# Altium footprint library 399200302.PcbLib: 1 footprints
Each footprint in its own frame and in the unit in brackets; x right, y up, seen from the top. Pads: shape width x height; smd on the part's side, far side on the other; paste and mask are expansions set on the pad; w line width, h text height; cw(c..) or ccw(c..) is an arc to the next point about the centre after c.
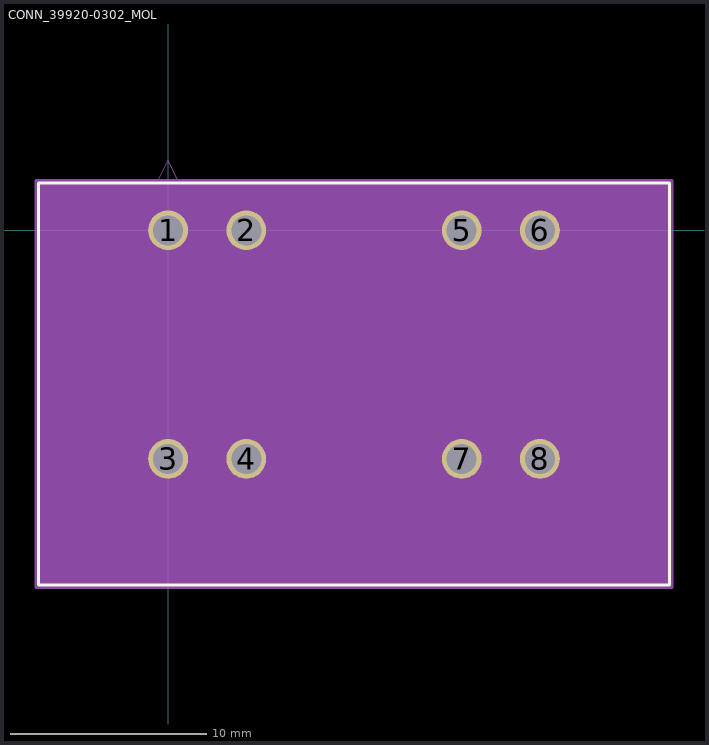
[diagram p0: the footprint, top view; thin cyan lines are the x and y axes]

## CONN_39920-0302_MOL [mil]
pads (8):
  round 80 / inner round 60 / far side round 80 hole 60 paste-40 mask+0: 1(0,0) 2(157.48,0) 3(0,-459.84) 4(157.48,-459.84) 5(590.55,0) 6(748.03,0) 7(590.55,-459.84) 8(748.03,-459.84)
Top Overlay:
  lines w6: -260.98,-713.45 1009.02,-713.45 1009.02,95.55 -260.98,95.55 -260.98,-713.45
Mechanical 13:
  lines w1: -25,90.55 0,140.55 25,90.55 ; -255.98,-708.45 1004.02,-708.45 1004.02,90.55 -255.98,90.55 -255.98,-708.45
Mechanical 15:
  region: 1014.02,100.55 1014.02,-718.45 -265.98,-718.45 -265.98,100.55
  lines w6: -265.98,-718.45 -265.98,100.55 1014.02,100.55 1014.02,-718.45 -265.98,-718.45